# EAGLE library part SI-50154-F (library SI-50154-F)
Conn Telephone/Telecom F 8 POS 2.54mm Solder RA Thru-Hole 12 Terminal 1 Port
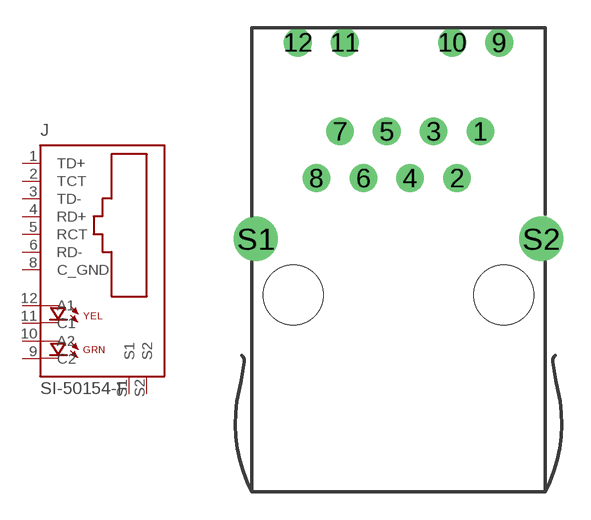
[diagram p0: symbol with the pads of STEWART_SI-50154-F; footprint STEWART_SI-50154-F]

Designator prefix J

## SI-50154-F (AVAILABILITY: Unavailable; DESCRIPTION: Conn RJ-45 Integrated Magnetics F 8 POS 2.54mm Solder RA Thru-Hole 12 Terminal 1 Port; MF: Stewart Connector; MP: SI-50154-F; PACKAGE: None; PRICE: None)  [STEWART_SI-50154-F]
1  TD+  pas
2  TCT  pas
3  TD-  pas
4  RD+  pas
5  RCT  pas
6  RD-  pas
8  C_GND  pas
9  C2  pas
10  A2  pas
11  C1  pas
12  A1  pas
S1  S1  pas
S2  S2  pas

## Footprint STEWART_SI-50154-F (pad centres in mm)
drill 0.9 pad 1.5: 1 4.445,6.858; 2 3.175,4.318; 3 1.905,6.858; 4 0.635,4.318; 5 -0.635,6.858; 6 -1.905,4.318; 7 -3.175,6.858; 8 -4.445,4.318
drill 1.016 pad 1.5: 9 5.461,11.684; 10 2.921,11.684; 11 -2.921,11.684; 12 -5.461,11.684
drill 1.6 pad 2.2: S1 -7.747,1.016; S2 7.747,1.016
hole 3.251 at -5.715,-2.032
hole 3.251 at 5.715,-2.032